# Altium schematic symbol library Mouse Bites.Schlib: 1 symbol
Pins are listed as number, name and electrical type; pins without a type are passive.

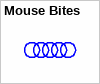
[diagram p0: symbol Mouse Bites]

## Mouse Bites
designator MB?  (value not drawn)  (no BOM)
footprint Mouse Bites (Mouse Bites 100mil groove, 20mil holes, 30 mil separation)